# Altium schematic symbol library SCH_Radio.SchLib: 8 symbols
Pins are listed as number, name and electrical type; pins without a type are passive.

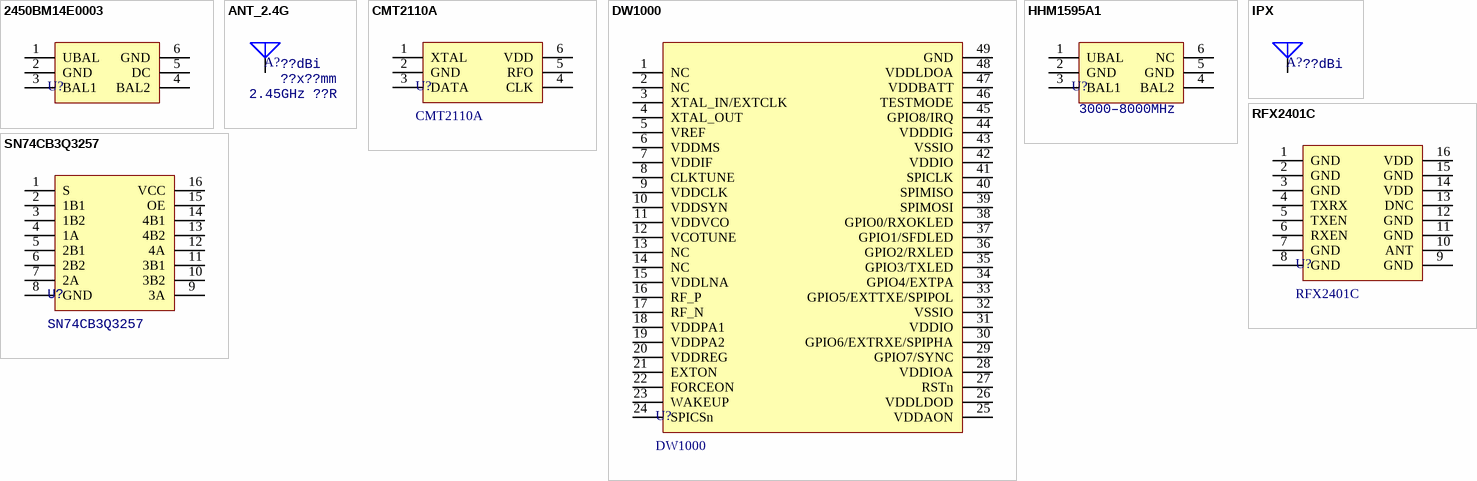
[diagram p0: symbols 2450BM14E0003 to SN74CB3Q3257]

## 2450BM14E0003
designator U?  (value not drawn)
Balun; Type: *
footprint SMD_E60x30_P0.5_6
pins: 1 UBAL, 2 GND, 3 BAL1, 4 BAL2, 5 DC, 6 GND

## ANT_2.4G
designator A?  value ??dBi  Specification: 2.45GHz ??R  type: ??x??mm  (hidden comment: ANT_2.4G)
Antenna
footprint ANT_2.4G_9.5x2.0
footprint ANT_2.4G_3.2x1.6
pins: 1 A

## CMT2110A
designator U?
RF; Type: *
footprint SOT23-6
pins: 1 XTAL, 2 GND, 3 DATA, 4 CLK, 5 RFO, 6 VDD

## DW1000
designator U?
UWB; Manufacturer: Decawave; Type: QFN48 P0.4
footprint QFN_P0.4_48_DW1000
pins: 1 NC, 2 NC, 3 XTAL_IN/EXTCLK, 4 XTAL_OUT, 5 VREF, 6 VDDMS, 7 VDDIF, 8 CLKTUNE, 9 VDDCLK, 10 VDDSYN, 11 VDDVCO, 12 VCOTUNE, 13 NC, 14 NC, 15 VDDLNA, 16 RF_P, 17 RF_N, 18 VDDPA1, 19 VDDPA2, 20 VDDREG, 21 EXTON, 22 FORCEON, 23 WAKEUP, 24 SPICSn, 25 VDDAON, 26 VDDLDOD, 27 RSTn, 28 VDDIOA, 29 GPIO7/SYNC, 30 GPIO6/EXTRXE/SPIPHA, 31 VDDIO, 32 VSSIO, 33 GPIO5/EXTTXE/SPIPOL, 34 GPIO4/EXTPA, 35 GPIO3/TXLED, 36 GPIO2/RXLED, 37 GPIO1/SFDLED, 38 GPIO0/RXOKLED, 39 SPIMOSI, 40 SPIMISO, 41 SPICLK, 42 VDDIO, 43 VSSIO, 44 VDDDIG, 45 GPIO8/IRQ, 46 TESTMODE, 47 VDDBATT, 48 VDDLDOA, 49 GND

## HHM1595A1
designator U?  value 3000–8000MHz  (hidden comment: HHM1595A1)
Balun; Manufacturer: TDK; Type: SMD6_P0.35
footprint SMD_E80x50_P0.35_6
pins: 1 UBAL, 2 GND, 3 BAL1, 4 BAL2, 5 GND, 6 NC

## IPX
designator A?  value ??dBi  (hidden comment: IPX)
Specification: ??R; type: IPX
footprint IPX_SMA
pins: 1 S

## RFX2401C
designator U?
Radio PA/LNA; Type: QFN16 P0.5
footprint QFN_P0.5_16
pins: 1 GND, 2 GND, 3 GND, 4 TXRX, 5 TXEN, 6 RXEN, 7 GND, 8 GND, 9 GND, 10 ANT, 11 GND, 12 GND, 13 DNC, 14 VDD, 15 GND, 16 VDD

## SN74CB3Q3257
designator U?
Switch; Type: TSSOP16 P0.65
footprint TSSOP_E170_P0.65_16
pins: 1 S, 2 1B1, 3 1B2, 4 1A, 5 2B1, 6 2B2, 7 2A, 8 GND, 9 3A, 10 3B2, 11 3B1, 12 4A, 13 4B2, 14 4B1, 15 OE, 16 VCC